# Altium footprint library GradConn.PcbLib: 1 footprints
Each footprint in its own frame and in the unit in brackets; x right, y up, seen from the top. Pads: shape width x height; smd on the part's side, far side on the other; paste and mask are expansions set on the pad; w line width, h text height; cw(c..) or ccw(c..) is an arc to the next point about the centre after c.
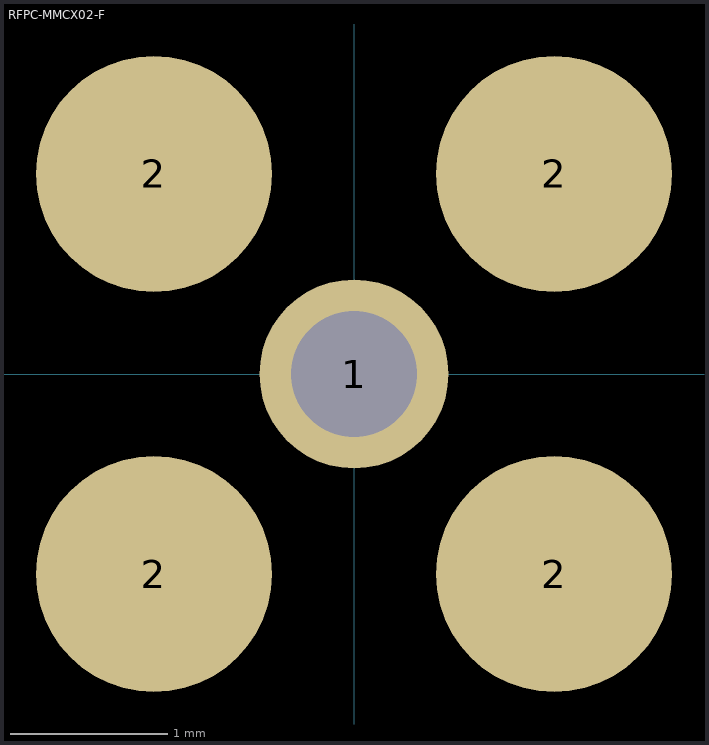
[diagram p0: the footprint, top view; thin cyan lines are the x and y axes]

## RFPC-MMCX02-F [mm] "MMCX Female Connector"
height 0.327
pads (5):
  round 1.2 hole 0.8: 1(0,0)
  round 1.5 smd: 2(-1.27,-1.27) 2(-1.27,1.27) 2(1.27,-1.27) 2(1.27,1.27)
3D body "RFPC-MMCX02-F_rev1.step": height 4.31, standoff -2.49, extent -1.75,-1.75 4.75,1.75